# Altium schematic symbol library BOARD_220V-20V.SchLib: 1 symbol
Pins are listed as number, name and electrical type; pins without a type are passive.

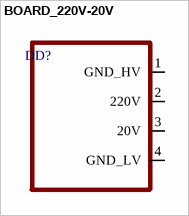
[diagram p0: symbol BOARD_220V-20V]

## BOARD_220V-20V
designator DD?
footprint BOARD_220V-20V
pins: 1 GND_HV, 2 220V, 3 20V, 4 GND_LV